# Altium integrated library standard_capacitors.IntLib: 8 symbols
Pins are listed as number, name and electrical type; pins without a type are passive.

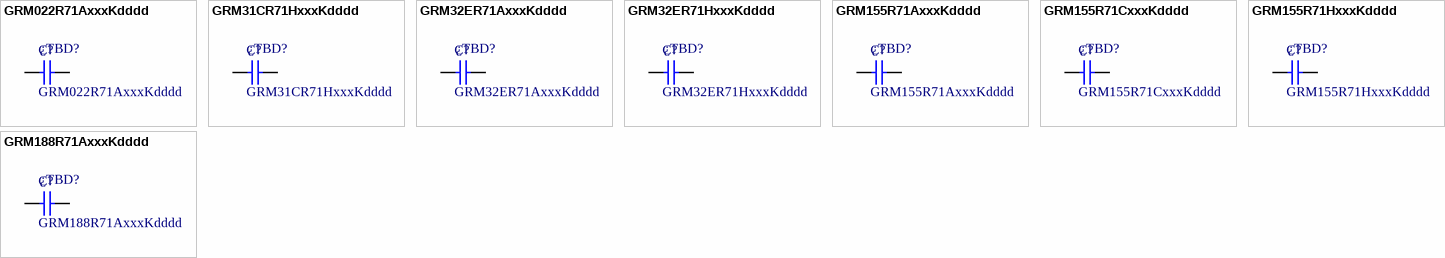
[diagram p0: symbols GRM022R71AxxxKdddd to GRM188R71AxxxKdddd]

## GRM022R71AxxxKdddd
designator C?  value ¿TBD?
-55-125C, 1005, 10V, X7R, ±10%
footprint 0402 (Chip Capacitor, Body 1.0x0.5mm, IPC High Density)
pins: 1, 2

## GRM31CR71HxxxKdddd
designator C?  value ¿TBD?
-55-125C, 3216, 50V, X7R, ±10%
footprint 1206 (Chip Capacitor, Body 3.2x1.6mm, IPC High Density)
pins: 1, 2

## GRM32ER71AxxxKdddd
designator C?  value ¿TBD?
-55-125C, 1005, 10V, X7R, ±10%
footprint 1210 (Chip Capacitor, Body 3.2x2.5mm, IPC High Density)
pins: 1, 2

## GRM32ER71HxxxKdddd
designator C?  value ¿TBD?
-55-125C, 1005, 50V, X7R, ±10%
footprint 1210 (Chip Capacitor, Body 3.2x2.5mm, IPC High Density)
pins: 1, 2

## GRM155R71AxxxKdddd
designator C?  value ¿TBD?
-55-125C, 1005, 10V, X7R, ±10%
footprint 0402 (Chip Capacitor, Body 1.0x0.5mm, IPC High Density)
pins: 1, 2

## GRM155R71CxxxKdddd
designator C?  value ¿TBD?
-55-125C, 1005, 16V, X7R, ±10%
footprint 0402 (Chip Capacitor, Body 1.0x0.5mm, IPC High Density)
pins: 1, 2

## GRM155R71HxxxKdddd
designator C?  value ¿TBD?
-55-125C, 1005, 50V, X7R, ±10%
footprint 0402 (Chip Capacitor, Body 1.0x0.5mm, IPC High Density)
pins: 1, 2

## GRM188R71AxxxKdddd
designator C?  value ¿TBD?
-55-125C, 1608, 10V, X7R, ±10%
footprint 0603 (Chip Capacitor, Body 1.6x0.8mm, IPC High Density)
pins: 1, 2